# EAGLE library part 756 (library ijrobotics)
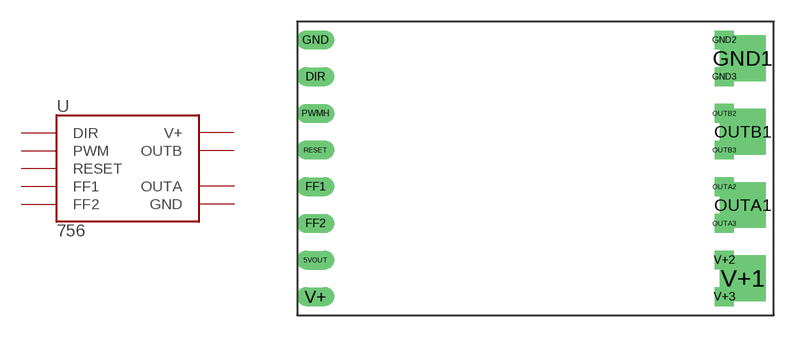
[diagram p3: symbol with the pads of 756; footprint 756]

Designator prefix -

## 756  [756]
DIR  DIR  in
FF1  FF1  out
FF2  FF2  out
GND  GND
GND1  GND
GND2  GND
GND3  GND
OUTA1  OUTA
OUTA2  OUTA
OUTA3  OUTA
OUTB1  OUTB
OUTB2  OUTB
OUTB3  OUTB
PWMH  PWM  in
RESET  RESET  out
V+  V+
V+1  V+
V+2  V+
V+3  V+

## Footprint 756 (pad centres in mm)
drill 0.8 long: 5VOUT 1.27,3.81; DIR 1.27,16.51; FF1 1.27,8.89; FF2 1.27,6.35; GND 1.27,19.05; PWMH 1.27,13.97; RESET 1.27,11.43; V+ 1.27,1.27
drill 2.159 square: GND1 30.861,17.78; OUTA1 30.861,7.62; OUTB1 30.861,12.7; V+1 30.861,2.54
drill 0.8 square: GND2 29.591,19.05; GND3 29.591,16.51; OUTA2 29.591,8.89; OUTA3 29.591,6.35; OUTB2 29.591,13.97; OUTB3 29.591,11.43; V+2 29.591,3.81; V+3 29.591,1.27